# Altium footprint library mPCIE.PcbLib: 3 footprints
Each footprint in its own frame and in the unit in brackets; x right, y up, seen from the top. Pads: shape width x height; smd on the part's side, far side on the other; paste and mask are expansions set on the pad; w line width, h text height; cw(c..) or ccw(c..) is an arc to the next point about the centre after c.
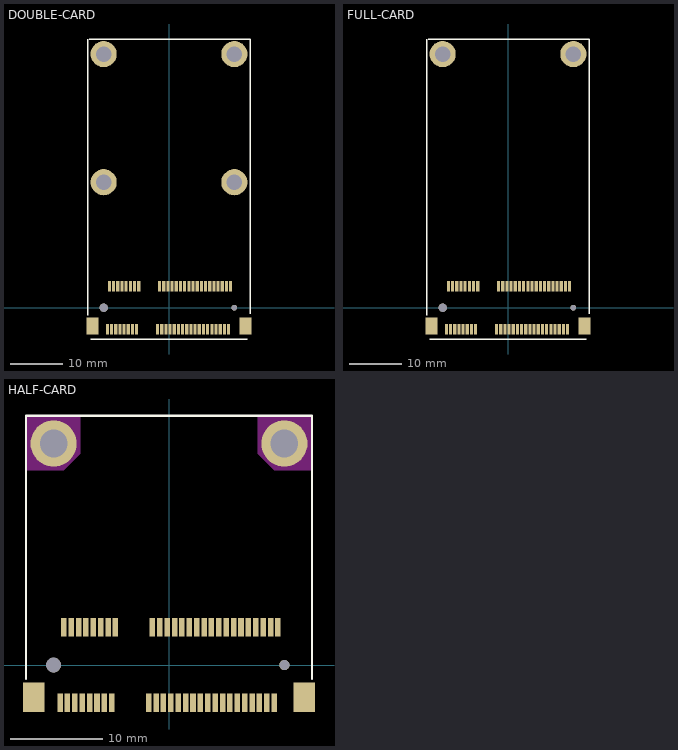
[diagram p0: the footprints below, top view; thin cyan lines are the x and y axes]

## DOUBLE-CARD [mm]
height 5
pads (60):
  rect 0.6x2 smd: 1(-11.8,-4.1) 2(-11.4,4.1) 3(-11,-4.1) 4(-10.6,4.1) 5(-10.2,-4.1) 6(-9.8,4.1) 7(-9.4,-4.1) 8(-9,4.1) 9(-8.6,-4.1) 10(-8.2,4.1) 11(-7.8,-4.1) 12(-7.4,4.1) 13(-7,-4.1) 14(-6.6,4.1) 15(-6.2,-4.1) 16(-5.8,4.1) 17(-2.2,-4.1) 18(-1.8,4.1) 19(-1.4,-4.1) 20(-1,4.1) 21(-0.6,-4.1) 22(-0.2,4.1) 23(0.2,-4.1) 24(0.6,4.1) 25(1,-4.1) 26(1.4,4.1) 27(1.8,-4.1) 28(2.2,4.1) 29(2.6,-4.1) 30(3,4.1) 31(3.4,-4.1) 32(3.8,4.1) 33(4.2,-4.1) 34(4.6,4.1) 35(5,-4.1) 36(5.4,4.1) 37(5.8,-4.1) 38(6.2,4.1) 39(6.6,-4.1) 40(7,4.1) 41(7.4,-4.1) 42(7.8,4.1) 43(8.2,-4.1) 44(8.6,4.1) 45(9,-4.1) 46(9.4,4.1) 47(9.8,-4.1) 48(10.2,4.1) 49(10.6,-4.1) 50(11,4.1) 51(11.4,-4.1) 52(11.8,4.1)
  rect 2.3x3.2 smd: ""(-14.65,-3.5) ""(14.65,-3.5)
  round 1.6 hole 1.6 unplated mask+0.102: ""(-12.5,0)
  round 5 hole 3 unplated: ""(-12.5,48.5) ""(-12.5,24) ""(12.5,24) ""(12.5,48.5)
  round 1.1 hole 1.1 unplated mask+0.102: ""(12.5,0)
Top Overlay:
  lines w0.254: -15.5,-1.5 -15.5,51.4 ; -15.3,51.4 15.5,51.4 15.5,-1.2 ; -15,-6 15,-6
3D body "User Library-K3D-MM60-52B1-G1-V1_JAE_Proprietary.step": height 3.9, standoff -0.9, extent -14.95,-4.9 14.95,4.7

## FULL-CARD [mm]
height 5
pads (58):
  rect 0.6x2 smd: 1(-11.8,-4.1) 2(-11.4,4.1) 3(-11,-4.1) 4(-10.6,4.1) 5(-10.2,-4.1) 6(-9.8,4.1) 7(-9.4,-4.1) 8(-9,4.1) 9(-8.6,-4.1) 10(-8.2,4.1) 11(-7.8,-4.1) 12(-7.4,4.1) 13(-7,-4.1) 14(-6.6,4.1) 15(-6.2,-4.1) 16(-5.8,4.1) 17(-2.2,-4.1) 18(-1.8,4.1) 19(-1.4,-4.1) 20(-1,4.1) 21(-0.6,-4.1) 22(-0.2,4.1) 23(0.2,-4.1) 24(0.6,4.1) 25(1,-4.1) 26(1.4,4.1) 27(1.8,-4.1) 28(2.2,4.1) 29(2.6,-4.1) 30(3,4.1) 31(3.4,-4.1) 32(3.8,4.1) 33(4.2,-4.1) 34(4.6,4.1) 35(5,-4.1) 36(5.4,4.1) 37(5.8,-4.1) 38(6.2,4.1) 39(6.6,-4.1) 40(7,4.1) 41(7.4,-4.1) 42(7.8,4.1) 43(8.2,-4.1) 44(8.6,4.1) 45(9,-4.1) 46(9.4,4.1) 47(9.8,-4.1) 48(10.2,4.1) 49(10.6,-4.1) 50(11,4.1) 51(11.4,-4.1) 52(11.8,4.1)
  rect 2.3x3.2 smd: ""(-14.65,-3.5) ""(14.65,-3.5)
  round 1.6 hole 1.6 unplated mask+0.102: ""(-12.5,0)
  round 5 hole 3 unplated: ""(-12.5,48.5) ""(12.5,48.5)
  round 1.1 hole 1.1 unplated mask+0.102: ""(12.5,0)
Top Overlay:
  lines w0.254: -15.5,-1.5 -15.5,51.4 ; -15.3,51.4 15.5,51.4 15.5,-1.2 ; -15,-6 15,-6
3D body "User Library-K3D-MM60-52B1-G1-V1_JAE_Proprietary.step": height 3.9, standoff -0.9, extent -14.95,-4.9 14.95,4.7

## HALF-CARD [mm]
height 5
pads (58):
  rect 0.6x2 smd: 1(-11.8,-4.1) 2(-11.4,4.1) 3(-11,-4.1) 4(-10.6,4.1) 5(-10.2,-4.1) 6(-9.8,4.1) 7(-9.4,-4.1) 8(-9,4.1) 9(-8.6,-4.1) 10(-8.2,4.1) 11(-7.8,-4.1) 12(-7.4,4.1) 13(-7,-4.1) 14(-6.6,4.1) 15(-6.2,-4.1) 16(-5.8,4.1) 17(-2.2,-4.1) 18(-1.8,4.1) 19(-1.4,-4.1) 20(-1,4.1) 21(-0.6,-4.1) 22(-0.2,4.1) 23(0.2,-4.1) 24(0.6,4.1) 25(1,-4.1) 26(1.4,4.1) 27(1.8,-4.1) 28(2.2,4.1) 29(2.6,-4.1) 30(3,4.1) 31(3.4,-4.1) 32(3.8,4.1) 33(4.2,-4.1) 34(4.6,4.1) 35(5,-4.1) 36(5.4,4.1) 37(5.8,-4.1) 38(6.2,4.1) 39(6.6,-4.1) 40(7,4.1) 41(7.4,-4.1) 42(7.8,4.1) 43(8.2,-4.1) 44(8.6,4.1) 45(9,-4.1) 46(9.4,4.1) 47(9.8,-4.1) 48(10.2,4.1) 49(10.6,-4.1) 50(11,4.1) 51(11.4,-4.1) 52(11.8,4.1)
  rect 2.3x3.2 smd: ""(-14.65,-3.5) ""(14.65,-3.5)
  round 1.6 hole 1.6 unplated mask+0.102: ""(-12.5,0)
  round 5 hole 3 unplated: ""(-12.5,24) ""(12.5,24)
  round 1.1 hole 1.1 unplated mask+0.102: ""(12.5,0)
Top Layer keep-out:
  region: -15.4,26.9 -9.6,26.9 -9.6,22.9 -11.4,21.1 -15.4,21.1
  region: 9.6,26.9 15.4,26.9 15.4,21.1 11.4,21.1 9.6,22.9
Top Overlay:
  lines w0.254: -15.5,-1.5 -15.5,27 15.5,27 15.5,-1.5
3D body "User Library-K3D-MM60-52B1-G1-V1_JAE_Proprietary.step": height 3.9, standoff -0.9, extent -14.95,-4.8 14.95,4.8